# Altium footprint library VCNL36826S.PcbLib: 1 footprints
Each footprint in its own frame and in the unit in brackets; x right, y up, seen from the top. Pads: shape width x height; smd on the part's side, far side on the other; paste and mask are expansions set on the pad; w line width, h text height; cw(c..) or ccw(c..) is an arc to the next point about the centre after c.
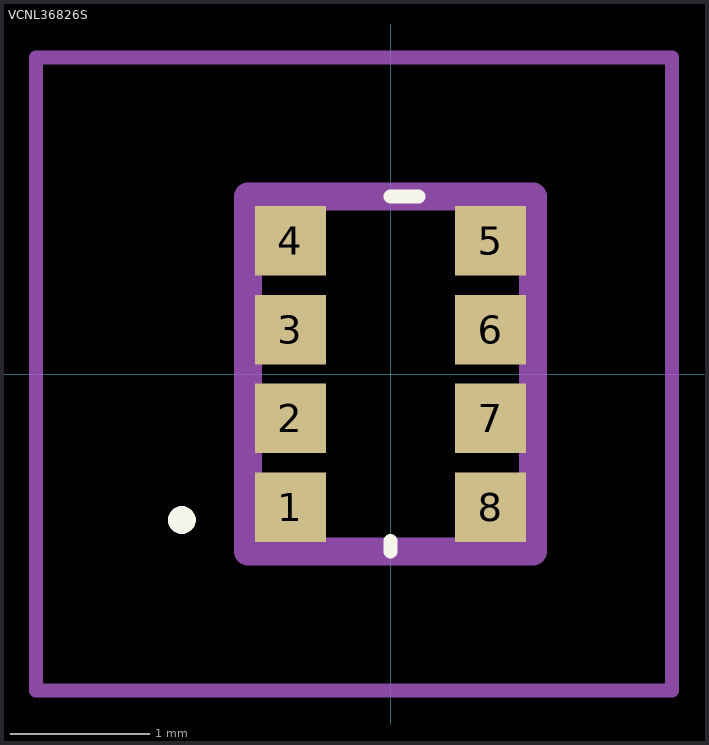
[diagram p0: the footprint, top view; thin cyan lines are the x and y axes]

## VCNL36826S [mm]
pads (8):
  rect 0.51x0.5 smd mask+0.025: 1(-0.72,-0.957) 2(-0.72,-0.319) 3(-0.72,0.319) 4(-0.72,0.957) 5(0.72,0.957) 6(0.72,0.319) 7(0.72,-0.319) 8(0.72,-0.957)
Top Overlay:
  lines w0.1: 0,-1.275 0,-1.2 ; 0,1.275 0.2,1.275 ; -1.5,-1.1 ccw(c-1.5,-1.05) -1.5,-1 ccw(c-1.5,-1.05) -1.5,-1.1
Top Courtyard:
  lines w0.2: -1.025,-1.275 -1.025,1.275 1.025,1.275 1.025,-1.275 -1.025,-1.275
Bottom Assembly (Mech20):
  lines w0.1: -2.55,-2.275 -2.55,2.275 2.025,2.275 2.025,-2.275 -2.55,-2.275
3D body "VCNL36826S.stp": height 1.2, standoff 0, extent -1.025,-1.275 1.025,1.275